# Altium schematic symbol library TPD7S019.Schlib: 1 symbol
Pins are listed as number, name and electrical type; pins without a type are passive.

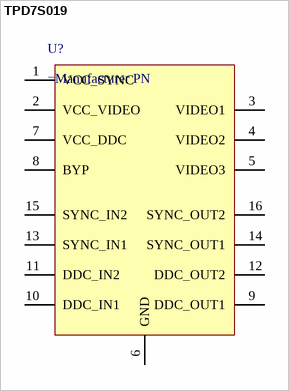
[diagram p0: symbol TPD7S019]

## TPD7S019
designator U?
VGA ESD Protection chip
pins: 1 VCC_SYNC, 2 VCC_VIDEO, 3 VIDEO1, 4 VIDEO2, 5 VIDEO3, 6 GND, 7 VCC_DDC, 8 BYP, 9 DDC_OUT1, 10 DDC_IN1, 11 DDC_IN2, 12 DDC_OUT2, 13 SYNC_IN1, 14 SYNC_OUT1, 15 SYNC_IN2, 16 SYNC_OUT2